# EAGLE library part 1-1734248-2 (library CONNECTORs)
2 Position FPC Connector Contacts, Vertical, 1 Sided 0.039" (1.00mm) Surface Mount
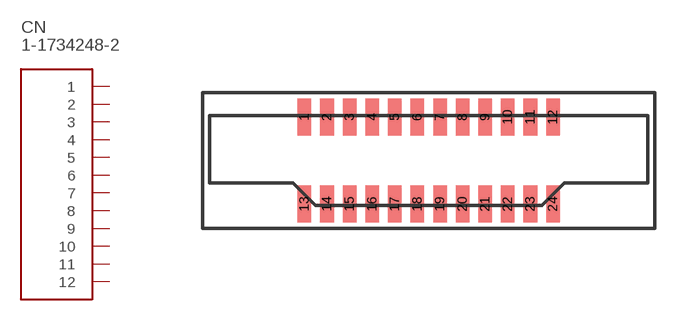
[diagram p44: symbol with the pads of 1-1734248-2; footprint 1-1734248-2]

Designator prefix CN

## 1-1734248-2 (DIGIKEY: A100266CT-ND; HEIGHT: 7.7; PRICE_PER: 0.83; VALUE: 12PIN 1MM)  [1-1734248-2]
1  1
2  2
3  3
4  4
5  5
6  6
7  7
8  8
9  9
10  10
11  11
12  12
13  1
14  2
15  3
16  4
17  5
18  6
19  7
20  8
21  9
22  10
23  11
24  12

## Footprint 1-1734248-2 (pad centres in mm)
smd 0.6 x 1.65: 1 -5.5,1.925; 2 -4.5,1.925; 3 -3.5,1.925; 4 -2.5,1.925; 5 -1.5,1.925; 6 -0.5,1.925; 7 0.5,1.925; 8 1.5,1.925; 9 2.5,1.925; 10 3.5,1.925; 11 4.5,1.925; 12 5.5,1.925; 13 -5.5,-1.925; 14 -4.5,-1.925; 15 -3.5,-1.925; 16 -2.5,-1.925; 17 -1.5,-1.925; 18 -0.5,-1.925; 19 0.5,-1.925; 20 1.5,-1.925; 21 2.5,-1.925; 22 3.5,-1.925; 23 4.5,-1.925; 24 5.5,-1.925